# Altium footprint library MEGA.PcbLib: 237 footprints (part 15 of 15)
Each footprint in its own frame and in the unit in brackets; x right, y up, seen from the top. Pads: shape width x height; smd on the part's side, far side on the other; paste and mask are expansions set on the pad; w line width, h text height; cw(c..) or ccw(c..) is an arc to the next point about the centre after c.
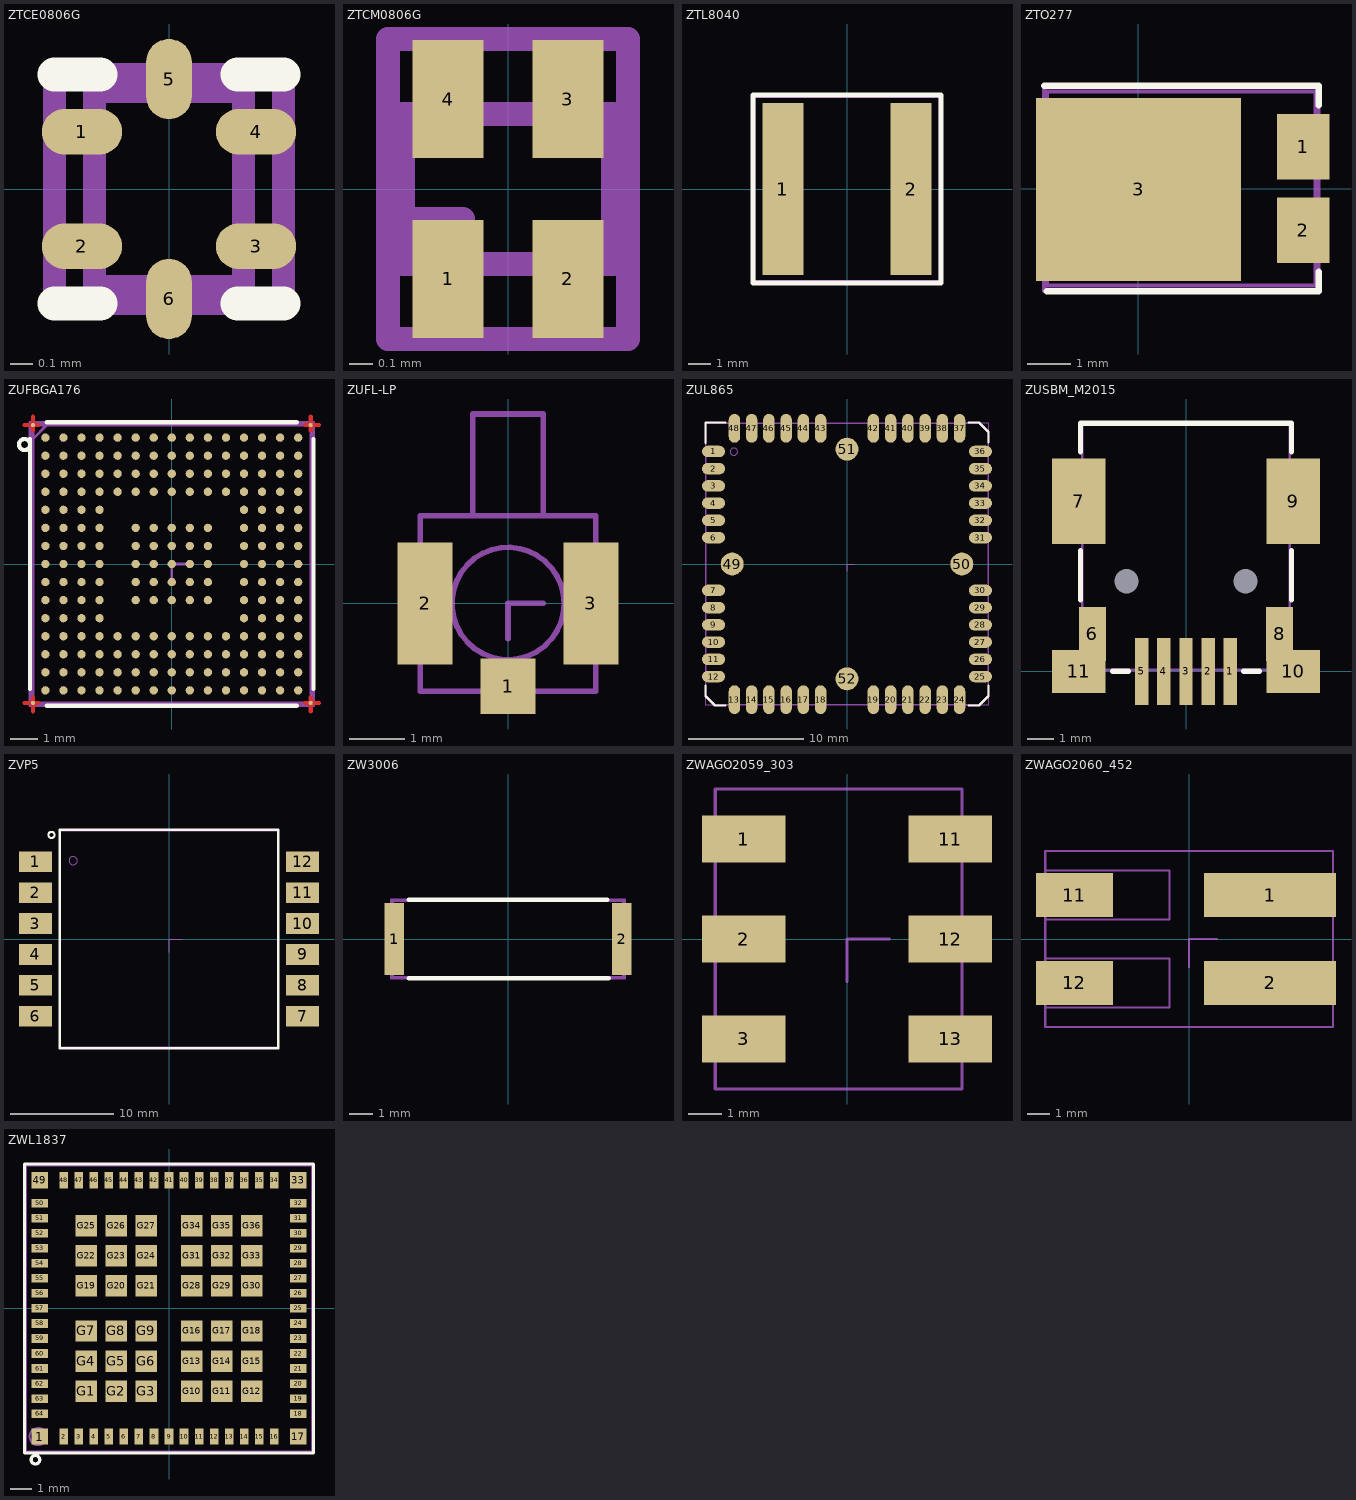
[diagram p14: the footprints below, top view; thin cyan lines are the x and y axes]

## ZTCE0806G [mm]
height 1.25
pads (6):
  oval 0.35x0.2 smd paste-0.03 mask+0.025: 1(-0.38,0.25) 2(-0.38,-0.25) 3(0.38,-0.25) 4(0.38,0.25)
  oval 0.2x0.35 smd paste-0.03 mask+0.025: 5(0,0.48) 6(0,-0.48)
Top Overlay:
  lines w0.15: -0.5,-0.5 -0.3,-0.5 ; -0.5,0.5 -0.3,0.5 ; 0.3,-0.5 0.5,-0.5 ; 0.3,0.5 0.5,0.5
Mechanical 15:
  lines w0.1: -0.325,-0.425 0.325,-0.425 0.325,0.425 -0.325,0.425 -0.325,-0.425
Multi-Layer:
  text "Value" at -0.824,-0.7 h0.5
Mechanical 20:
  lines w0.1: -0.5,-0.5 0.5,-0.5 0.5,0.5 -0.5,0.5 -0.5,-0.5

## ZTCM0806G [mm]
pads (4):
  rect 0.3x0.5 smd paste-0.04 mask+0.05: 1(-0.254,-0.381) 2(0.254,-0.381) 3(0.254,0.381) 4(-0.254,0.381)
Mechanical 15:
  lines w0.1: -0.445,-0.318 -0.445,-0.127 -0.191,-0.127 -0.191,-0.318 -0.445,-0.318 ; -0.445,-0.318 -0.445,0.318 0.445,0.318 0.445,-0.318 -0.445,-0.318
Multi-Layer:
  text "Value" at -0.824,-0.681 h0.5
Mechanical 20:
  lines w0.1: -0.508,-0.635 -0.508,0.635 0.508,0.635 0.508,-0.635 -0.508,-0.635

## ZTL8040 [mm]
pads (2):
  rect 1.8x7.5 smd paste-0.565 mask+0.05: 1(-2.794,0) 2(2.794,0)
Top Overlay:
  lines w0.2: -4.1,-4.1 4.1,-4.1 4.1,4.1 -4.1,4.1 -4.1,-4.1
Mechanical 15:
  lines w0.01: -4,-4 4,-4 4,4 -4,4 -4,-4
Multi-Layer:
  text "Value" at -1.192,-1.068 h0.75
Mechanical 20:
  lines w0.01: -4.1,-4.1 4.1,-4.1 4.1,4.1 -4.1,4.1 -4.1,-4.1

## ZTO277 [mm]
pads (3):
  rect 1.2x1.5 smd paste-0.115 mask+0.05: 1(3.778,0.953) 2(3.778,-0.953)
  rect 4.7x4.2 smd paste-0.35 mask+0.05: 3(0.004,-0.022)
Top Overlay:
  lines w0.15: -2.159,2.349 4.127,2.349 4.127,1.905 ; -2.095,-2.349 4.127,-2.349 4.127,-1.905
Mechanical 15:
  lines w0.1: -2.095,-2.222 4.064,-2.222 4.064,2.222 -2.095,2.222 -2.095,-2.222
Multi-Layer:
  text "Value" at -1.002,-1.298 h0.6
Mechanical 19:
  lines w0.1: 0,-1 0,0 1,0 ; -2.159,-2.349 -2.159,2.349 4.127,2.349 4.127,-2.349 -2.159,-2.349

## ZUFBGA176 [mm]
pads (205):
  round 0.3 smd paste-0.025 mask+0.05: A1(-4.55,4.55) A2(-3.9,4.55) A3(-3.25,4.55) A4(-2.6,4.55) A5(-1.95,4.55) A6(-1.3,4.55) A7(-0.65,4.55) A8(0,4.55) A9(0.65,4.55) A10(1.3,4.55) A11(1.95,4.55) A12(2.6,4.55) A13(3.25,4.55) A14(3.9,4.55) A15(4.55,4.55) B1(-4.55,3.9) B2(-3.9,3.9) B3(-3.25,3.9) B4(-2.6,3.9) B5(-1.95,3.9) B6(-1.3,3.9) B7(-0.65,3.9) B8(0,3.9) B9(0.65,3.9) B10(1.3,3.9) B11(1.95,3.9) B12(2.6,3.9) B13(3.25,3.9) B14(3.9,3.9) B15(4.55,3.9) C1(-4.55,3.25) C2(-3.9,3.25) C3(-3.25,3.25) C4(-2.6,3.25) C5(-1.95,3.25) C6(-1.3,3.25) C7(-0.65,3.25) C8(0,3.25) C9(0.65,3.25) C10(1.3,3.25) C11(1.95,3.25) C12(2.6,3.25) C13(3.25,3.25) C14(3.9,3.25) C15(4.55,3.25) D1(-4.55,2.6) D2(-3.9,2.6) D3(-3.25,2.6) D4(-2.6,2.6) D5(-1.95,2.6) D6(-1.3,2.6) D7(-0.65,2.6) D8(0,2.6) D9(0.65,2.6) D10(1.3,2.6) D11(1.95,2.6) D12(2.6,2.6) D13(3.25,2.6) D14(3.9,2.6) D15(4.55,2.6) E1(-4.55,1.95) E2(-3.9,1.95) E3(-3.25,1.95) E4(-2.6,1.95) E12(2.6,1.95) E13(3.25,1.95) E14(3.9,1.95) E15(4.55,1.95) F1(-4.55,1.3) F2(-3.9,1.3) F3(-3.25,1.3) F4(-2.6,1.3) F6(-1.3,1.3) F7(-0.65,1.3) F8(0,1.3) F9(0.65,1.3) F10(1.3,1.3) F12(2.6,1.3) F13(3.25,1.3) F14(3.9,1.3) F15(4.55,1.3) G1(-4.55,0.65) G2(-3.9,0.65) G3(-3.25,0.65) G4(-2.6,0.65) G6(-1.3,0.65) G7(-0.65,0.65) G8(0,0.65) G9(0.65,0.65) G10(1.3,0.65) G12(2.6,0.65) G13(3.25,0.65) G14(3.9,0.65) G15(4.55,0.65) H1(-4.55,0) H2(-3.9,0) H3(-3.25,0) H4(-2.6,0) H6(-1.3,0) H7(-0.65,0) H8(0,0) H9(0.65,0) H10(1.3,0) H12(2.6,0) H13(3.25,0) H14(3.9,0) H15(4.55,0) J1(-4.55,-0.65) J2(-3.9,-0.65) J3(-3.25,-0.65) J4(-2.6,-0.65) J6(-1.3,-0.65) J7(-0.65,-0.65) J8(0,-0.65) J9(0.65,-0.65) J10(1.3,-0.65) J12(2.6,-0.65) J13(3.25,-0.65) J14(3.9,-0.65) J15(4.55,-0.65) K1(-4.55,-1.3) K2(-3.9,-1.3) K3(-3.25,-1.3) K4(-2.6,-1.3) K6(-1.3,-1.3) K7(-0.65,-1.3) K8(0,-1.3) K9(0.65,-1.3) K10(1.3,-1.3) K12(2.6,-1.3) K13(3.25,-1.3) K14(3.9,-1.3) K15(4.55,-1.3) L1(-4.55,-1.95) L2(-3.9,-1.95) L3(-3.25,-1.95) L4(-2.6,-1.95) L12(2.6,-1.95) L13(3.25,-1.95) L14(3.9,-1.95) L15(4.55,-1.95) M1(-4.55,-2.6) M2(-3.9,-2.6) M3(-3.25,-2.6) M4(-2.6,-2.6) M5(-1.95,-2.6) M6(-1.3,-2.6) M7(-0.65,-2.6) M8(0,-2.6) M9(0.65,-2.6) M10(1.3,-2.6) M11(1.95,-2.6) M12(2.6,-2.6) M13(3.25,-2.6) M14(3.9,-2.6) M15(4.55,-2.6) N1(-4.55,-3.25) N2(-3.9,-3.25) N3(-3.25,-3.25) N4(-2.6,-3.25) N5(-1.95,-3.25) N6(-1.3,-3.25) N7(-0.65,-3.25) N8(0,-3.25) N9(0.65,-3.25) N10(1.3,-3.25) N11(1.95,-3.25) N12(2.6,-3.25) N13(3.25,-3.25) N14(3.9,-3.25) N15(4.55,-3.25) P1(-4.55,-3.9) P2(-3.9,-3.9) P3(-3.25,-3.9) P4(-2.6,-3.9) P5(-1.95,-3.9) P6(-1.3,-3.9) P7(-0.65,-3.9) P8(0,-3.9) P9(0.65,-3.9) P10(1.3,-3.9) P11(1.95,-3.9) P12(2.6,-3.9) P13(3.25,-3.9) P14(3.9,-3.9) P15(4.55,-3.9) R1(-4.55,-4.55) R2(-3.9,-4.55) R3(-3.25,-4.55) R4(-2.6,-4.55) R5(-1.95,-4.55) R6(-1.3,-4.55) R7(-0.65,-4.55) R8(0,-4.55) R9(0.65,-4.55) R10(1.3,-4.55) R11(1.95,-4.55) R12(2.6,-4.55) R13(3.25,-4.55) R14(3.9,-4.55) R15(4.55,-4.55)
  round 0.15 smd mask+0.05: HL1(-5,5) HL2(5,5) HL3(-5,-5) HL4(5,-5)
L1-Top Layer:
  lines w0.15: -5.3,-5 -4.8,-5 ; -5.3,5 -4.8,5 ; -5,-5.3 -5,-4.8 ; -5,4.8 -5,5.3 ; 4.8,-5 5.3,-5 ; 4.8,5 5.3,5 ; 5,-5.3 5,-4.8 ; 5,4.8 5,5.3
Top Overlay:
  circle w0.15: c-5.3,4.3 r0.2
  lines w0.15: -5.1,-4.5 -5.1,4.5 ; -4.5,-5.1 4.5,-5.1 ; -4.5,5.1 4.5,5.1 ; 5.1,-4.5 5.1,4.5
Top Solder:
  lines w0.25: -5.3,-5 -4.8,-5 ; -5.3,5 -4.8,5 ; -5,-5.3 -5,-4.8 ; -5,4.8 -5,5.3 ; 4.8,-5 5.3,-5 ; 4.8,5 5.3,5 ; 5,-5.3 5,-4.8 ; 5,4.8 5,5.3
Mechanical 15:
  lines w0.1: -5,4.5 -4.5,5 ; -5,-5 5,-5 5,5 -5,5 -5,-5
Mechanical 19:
  lines w0.1: 0,-0.5 0,0 0.5,0
Mechanical 20:
  lines w0.1: -5.1,-5.1 5.1,-5.1 5.1,5.1 -5.1,5.1 -5.1,-5.1

## ZUFL-LP [mm]
pads (3):
  rect 1x1 smd paste-0.075 mask+0.1: 1(0,-1.5)
  rect 1x2.2 smd paste-0.165 mask+0.1: 2(-1.5,0) 3(1.5,0)
Mechanical 15:
  circle w0.1: c0,0 r1.016
  lines w0.1: -1.587,-1.587 1.587,-1.587 1.587,1.587 -1.587,1.587 -1.587,-1.587 ; -0.635,1.587 0.635,1.587 0.635,3.429 -0.635,3.429 -0.635,1.587
Multi-Layer:
  text "Value" at 1.335,-1.25 h0.75
Mechanical 19:
  lines w0.1: 0,-0.635 0,0 0.635,0

## ZUL865 [mm]
pads (52):
  oval 2x1 smd paste-0.15 mask+0.05: 1(-11.62,9.8) 2(-11.62,8.3) 3(-11.62,6.8) 4(-11.62,5.3) 5(-11.62,3.8) 6(-11.62,2.3) 7(-11.62,-2.3) 8(-11.62,-3.8) 9(-11.62,-5.3) 10(-11.62,-6.8) 11(-11.62,-8.3) 12(-11.62,-9.8) 25(11.62,-9.8) 26(11.62,-8.3) 27(11.62,-6.8) 28(11.62,-5.3) 29(11.62,-3.8) 30(11.62,-2.3) 31(11.62,2.3) 32(11.62,3.8) 33(11.62,5.3) 34(11.62,6.8) 35(11.62,8.3) 36(11.62,9.8)
  oval 1x2.5 smd paste-0.19 mask+0.05: 13(-9.8,-11.811) 14(-8.3,-11.811) 15(-6.8,-11.811) 16(-5.3,-11.811) 17(-3.8,-11.811) 18(-2.3,-11.811) 19(2.3,-11.811) 20(3.8,-11.811) 21(5.3,-11.811) 22(6.8,-11.811) 23(8.3,-11.811) 24(9.8,-11.811) 37(9.8,11.811) 38(8.3,11.811) 39(6.8,11.811) 40(5.3,11.811) 41(3.8,11.811) 42(2.3,11.811) 43(-2.3,11.811) 44(-3.8,11.811) 45(-5.3,11.811) 46(-6.8,11.811) 47(-8.3,11.811) 48(-9.8,11.811)
  round 2 smd paste-0.15 mask+0.05: 49(-10,0) 50(10,0) 51(0,10) 52(0,-10)
Top Overlay:
  lines w0.2: -12.319,-10.604 -12.319,-11.493 -11.493,-12.319 -10.604,-12.319 ; -12.319,10.541 -12.319,12.319 -10.604,12.319 ; 10.604,-12.319 11.493,-12.319 12.319,-11.493 12.319,-10.604 ; 10.604,12.319 11.493,12.319 12.319,11.493 12.319,10.604
Mechanical 15:
  circle w0.01: c-9.842,9.779 r0.318
  lines w0.01: -12.255,-11.455 -11.455,-12.255 11.455,-12.255 12.255,-11.455 12.255,11.455 11.455,12.255 -12.255,12.255 -12.255,-11.455
Mechanical 19:
  lines w0.01: 0,-0.635 0,0 0.635,0
Mechanical 20:
  lines w0.01: -12.319,-12.319 12.319,-12.319 12.319,12.319 -12.319,12.319 -12.319,-12.319

## ZUSBM_M2015 [mm]
height 1.25
pads (13):
  rect 0.5x2.5 smd paste-0.19 mask+0.05: 1(1.651,0) 2(0.826,0) 3(0,0) 4(-0.826,0) 5(-1.651,0)
  rect 1x2 smd paste-0.15 mask+0.05: 6(-3.492,1.397) 8(3.492,1.397)
  rect 2x3.2 smd paste-0.24 mask+0.05: 7(-4,6.35) 9(4,6.35)
  rect 2x1.6 smd paste-0.15 mask+0.05: 10(4,0) 11(-4,0)
  round 0 hole 0.9 unplated: HL1(2.222,3.365) HL2(-2.222,3.365)
Top Overlay:
  lines w0.2: -3.937,2.667 -3.937,4.508 ; -3.937,8.191 -3.937,9.271 3.937,9.271 3.937,8.191 ; -2.73,0 -2.159,0 ; 2.159,0 2.73,0 ; 3.937,2.667 3.937,4.508
Mechanical 15:
  lines w0.1: -3.873,0.064 3.873,0.064 3.873,9.271 -3.873,9.271 -3.873,0.064
Multi-Layer:
  text "Value" at -1.108,8.021 h0.75

## ZVP5 [mm]
pads (12):
  rect 3.2x2 smd paste-0.24 mask+0.05: 1(-12.954,7.5) 2(-12.954,4.5) 3(-12.954,1.5) 4(-12.954,-1.5) 5(-12.954,-4.5) 6(-12.954,-7.5) 7(12.954,-7.5) 8(12.954,-4.5) 9(12.954,-1.5) 10(12.954,1.5) 11(12.954,4.5) 12(12.954,7.5)
Top Overlay:
  circle w0.2: c-11.4,10.1 r0.3
  lines w0.2: -10.6,-10.6 10.6,-10.6 10.6,10.6 -10.6,10.6 -10.6,-10.6
Mechanical 15:
  circle w0.1: c-9.3,7.6 r0.4
  lines w0.1: -10.5,-10.5 10.5,-10.5 10.5,10.5 -10.5,10.5 -10.5,-10.5
Multi-Layer:
  text "Value" at -1.235,-1.695 h0.75
Mechanical 19:
  lines w0.1: 0,-1.27 0,0 1.27,0
Mechanical 20:
  lines w0.1: -10.6,-10.6 10.6,-10.6 10.6,10.6 -10.6,10.6 -10.6,-10.6

## ZW3006 [mm]
pads (2):
  rect 0.85x3.15 smd paste-0.24 mask+0.05: 1(-4.953,0) 2(4.953,0)
Top Overlay:
  lines w0.2: -4.318,-1.714 4.381,-1.714 ; -4.318,1.714 4.318,1.714
Mechanical 15:
  lines w0.1: -5.016,-1.651 5.016,-1.651 5.016,1.651 -5.016,1.651 -5.016,-1.651
Mechanical 20:
  lines w0.1: -5.08,-1.714 5.08,-1.714 5.08,1.714 -5.08,1.714 -5.08,-1.714

## ZWAGO2059_303 [mm]
pads (6):
  rect 2.5x1.4 smd paste-0.19 mask+0.05: 1(-3.1,3) 2(-3.1,0) 3(-3.1,-3) 11(3.1,3) 12(3.1,0) 13(3.1,-3)
Mechanical 15:
  lines w0.1: -3.95,-4.5 3.45,-4.5 3.45,4.5 -3.95,4.5 -3.95,-4.5
Mechanical 19:
  lines w0.1: 0,-1.27 0,0 1.27,0

## ZWAGO2060_452 [mm]
pads (4):
  rect 6x2 smd paste-0.45 mask+0.05: 1(3.683,2) 2(3.683,-2)
  rect 3.5x2 smd paste-0.265 mask+0.05: 11(-5.207,2) 12(-5.207,-2)
Mechanical 15:
  lines w0.1: -6.54,-4 6.54,-4 6.54,4 -6.54,4 -6.54,-4 ; -6.54,-3.111 -0.889,-3.111 -0.889,-0.889 -6.54,-0.889 -6.54,-3.111 ; -6.54,0.889 -0.889,0.889 -0.889,3.111 -6.54,3.111 -6.54,0.889
Mechanical 19:
  lines w0.1: 0,-1.27 0,0 1.27,0

## ZWL1837 [mm]
pads (100):
  rect 0.75x0.75 smd paste-0.06 mask+0.05: 1(-6.025,-5.975) 17(6.025,-5.975) 33(6.025,5.975) 49(-6.025,5.975)
  rect 0.4x0.75 smd paste-0.06 mask+0.05: 2(-4.9,-5.975) 3(-4.2,-5.975) 4(-3.5,-5.975) 5(-2.8,-5.975) 6(-2.1,-5.975) 7(-1.4,-5.975) 8(-0.7,-5.975) 9(0,-5.975) 10(0.7,-5.975) 11(1.4,-5.975) 12(2.1,-5.975) 13(2.8,-5.975) 14(3.5,-5.975) 15(4.2,-5.975) 16(4.9,-5.975) 34(4.9,5.975) 35(4.2,5.975) 36(3.5,5.975) 37(2.8,5.975) 38(2.1,5.975) 39(1.4,5.975) 40(0.7,5.975) 41(0,5.975) 42(-0.7,5.975) 43(-1.4,5.975) 44(-2.1,5.975) 45(-2.8,5.975) 46(-3.5,5.975) 47(-4.2,5.975) 48(-4.9,5.975)
  rect 0.75x0.4 smd paste-0.06 mask+0.05: 18(6.025,-4.9) 19(6.025,-4.2) 20(6.025,-3.5) 21(6.025,-2.8) 22(6.025,-2.1) 23(6.025,-1.4) 24(6.025,-0.7) 25(6.025,0) 26(6.025,0.7) 27(6.025,1.4) 28(6.025,2.1) 29(6.025,2.8) 30(6.025,3.5) 31(6.025,4.2) 32(6.025,4.9) 50(-6.025,4.9) 51(-6.025,4.2) 52(-6.025,3.5) 53(-6.025,2.8) 54(-6.025,2.1) 55(-6.025,1.4) 56(-6.025,0.7) 57(-6.025,0) 58(-6.025,-0.7) 59(-6.025,-1.4) 60(-6.025,-2.1) 61(-6.025,-2.8) 62(-6.025,-3.5) 63(-6.025,-4.2) 64(-6.025,-4.9)
  rect 1x1 smd paste-0.075 mask+0.05: G1(-3.85,-3.85) G2(-2.45,-3.85) G3(-1.05,-3.85) G4(-3.85,-2.45) G5(-2.45,-2.45) G6(-1.05,-2.45) G7(-3.85,-1.05) G8(-2.45,-1.05) G9(-1.05,-1.05) G10(1.05,-3.85) G11(2.45,-3.85) G12(3.85,-3.85) G13(1.05,-2.45) G14(2.45,-2.45) G15(3.85,-2.45) G16(1.05,-1.05) G17(2.45,-1.05) G18(3.85,-1.05) G19(-3.85,1.05) G20(-2.45,1.05) G21(-1.05,1.05) G22(-3.85,2.45) G23(-2.45,2.45) G24(-1.05,2.45) G25(-3.85,3.85) G26(-2.45,3.85) G27(-1.05,3.85) G28(1.05,1.05) G29(2.45,1.05) G30(3.85,1.05) G31(1.05,2.45) G32(2.45,2.45) G33(3.85,2.45) G34(1.05,3.85) G35(2.45,3.85) G36(3.85,3.85)
Top Overlay:
  circle w0.15: c-6.223,-7.048 r0.2
  lines w0.15: -6.731,-6.731 6.731,-6.731 6.731,6.731 -6.731,6.731 -6.731,-6.731
Mechanical 15:
  circle w0.1: c-6.096,-5.969 r0.4
  lines w0.1: -6.667,-6.667 6.667,-6.667 6.667,6.667 -6.667,6.667 -6.667,-6.667
Mechanical 20:
  lines w0.1: -6.731,-6.731 6.731,-6.731 6.731,6.731 -6.731,6.731 -6.731,-6.731